# Altium schematic symbol library AD9851.SchLib: 25 symbols
Pins are listed as number, name and electrical type; pins without a type are passive.

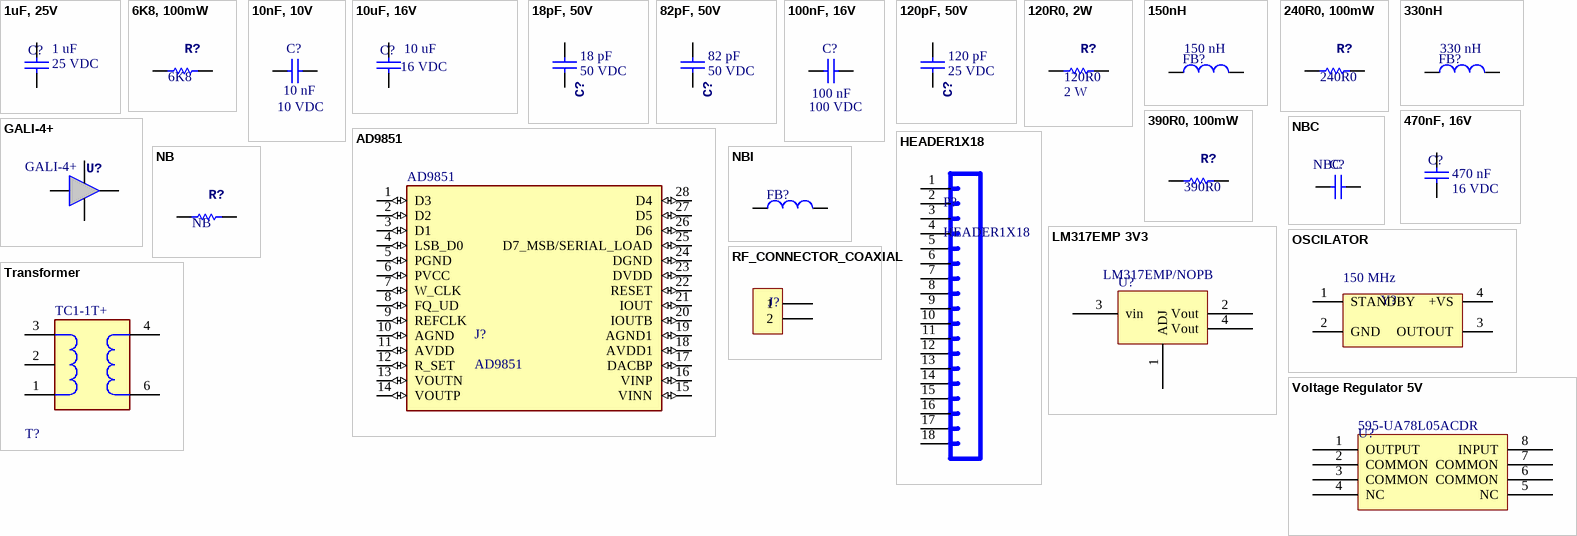
[diagram p0: symbols 1uF, 25V to Voltage Regulator 5V]

## 1uF, 25V
designator C?  Capacitance: 1 uF  Voltage Rating DC: 25 VDC  (hidden comment: 1uF, 25V)
Cap_Cer; Manufacturer: AVX; Manufacturer Part Number: 06033C105KAT2A; Description: Multilayer Ceramic Capacitors MLCC - SMD/SMT 25V 1uF X7R 0603 10%TOL HIGH CV; Tolerance: 10 %; Type: X7R MLC Capacitors; Capacitance - nF: 1000 nF; Class: Class 2; Dielectric: X7R; Supplier 1: Mouser; RoHS: RoHS Compliant; Category: Multilayer Ceramic Capacitors MLCC - SMD/SMT; Stock 1: 85860; Pricing 1: 1=0.390, 10=0.218, 100=0.186, 500=0.131, 1000=0.114, 2000=0.112, 4000=0.100, 8000=0.086, 24000=0.075 (MXN); Height: 0.35 mm; Length: 1.6 mm; Package / Case: 0603 (1608 metric); Packaging: Cut Tape; Product: General Type MLCCs; Series: MLCC X7R; Termination Style: SMD/SMT; Width: 0.8 mm; Brand: AVX; Case Code - in: 0603; Case Code - mm: 1608; Maximum Operating Temperature: + 125 C; Minimum Operating Temperature: - 55 C; Product Type: Ceramic Capacitors; Standard Pack Qty: 4000; Subcategory: Capacitors; Termination: Standard; RoHS - Mouser: Y; Minimum Order Quantity: 1; Reeling: True; ComponentLink1URL: https://www.mouser.com/datasheet/2/40/X7RDielectric-777024.pdf; ComponentLink1Description: https://www.mouser.com/datasheet/2/40/X7RDielectric-777024.pdf; Supplier Part Number 1: 581-06033C105KAT2A
footprint C0603
pins: 1, 2

## 6K8, 100mW
designator R?  Resistance: 6K8  (hidden comment: 6K8, 100mW)
Resistor; Manufacturer: Vishay / Dale; Manufacturer Part Number: CRCW06036K80JNEA; Description: Thick Film Resistors - SMD 1/10watt 6.8Kohms 5%; Power Rating: 100 mW (1/10 W); Temperature Coefficient: 200 PPM / C; Tolerance: 5 %; Voltage Rating: 75 V; Qualification: AEC-Q200; Supplier 1: Mouser; RoHS: RoHS Compliant By Exemption; Category: Thick Film Resistors - SMD; Stock 1: 18989; Pricing 1: 1=0.130, 10=0.042, 100=0.017, 1000=0.007, 5000=0.004 (MXN); Application: Automotive Grade; Features: -; Height: 0.45 mm; Length: 1.55 mm; Package / Case: -; Packaging: Cut Tape; Product: Thick Film Resistors SMD; Series: D/CRCW e3; Technology: Thick Film; Termination Style: SMD/SMT; Type: Chip Resistor; Width: 0.85 mm; Brand: Vishay / Dale; Mounting Style: PCB Mount; Case Code - in: 0603; Case Code - mm: 1608; Maximum Operating Temperature: + 155 C; Minimum Operating Temperature: - 55 C; Product Type: Thick Film Resistors; Standard Pack Qty: 5000; Subcategory: Resistors; RoHS - Mouser: E; Minimum Order Quantity: 1; Reeling: True; ComponentLink1URL: https://www.mouser.com/datasheet/2/427/dcrcwe3-1762152.pdf; ComponentLink1Description: https://www.mouser.com/datasheet/2/427/dcrcwe3-1762152.pdf; Supplier Part Number 1: 71-CRCW0603J-6.8K-E3
footprint RESC0603
pins: 1, 2

## 10nF, 10V
designator C?  Voltage Rating DC: 10 VDC  Capacitance - nF: 10 nF  (hidden comment: 10nF, 10V)
Cap_Cer; Manufacturer: Murata Electronics; Manufacturer Part Number: GRM1857U1A103JA44D; Capacitance: 0.01 uF; Tolerance: 5 %; Type: Chip Multilayer Ceramic Capacitor for General Purpose; Capacitance - pF: 10000 pF; Class: Class 1; Dielectric: U2J; Supplier 1: Mouser; RoHS: RoHS Compliant; Category: Multilayer Ceramic Capacitors MLCC - SMD/SMT; Stock 1: 8033; Pricing 1: 1=0.325, 10=0.221, 100=0.112, 500=0.075, 1000=0.068, 4000=0.046, 8000=0.044 (MXN); Height: 0.5 mm; Length: 1.6 mm; Package / Case: 0603 (1608 metric); Packaging: Cut Tape; Product: General Type MLCCs; Series: GRM; Termination Style: SMD/SMT; Width: 0.8 mm; Brand: Murata Electronics; Case Code - in: 0603; Case Code - mm: 1608; Maximum Operating Temperature: + 125 C; Minimum Operating Temperature: - 55 C; Product Type: Ceramic Capacitors; Standard Pack Qty: 4000; Subcategory: Capacitors; Termination: Standard; RoHS - Mouser: Y; Minimum Order Quantity: 1; Reeling: True; ComponentLink1URL: https://www.mouser.com/datasheet/2/281/murata_03052018_GRM_Series_1-1310166.pdf; ComponentLink1Description: https://www.mouser.com/datasheet/2/281/murata_03052018_GRM_Series_1-1310166.pdf; Supplier Part Number 1: 81-GRM1857U1A103JA4D
footprint C0603
pins: 1, 2

## 10uF, 16V
designator C?  Capacitance: 10 uF  Voltage Rating DC: 16 VDC  (hidden comment: 10uF, 16V)
Cap_Cer; Manufacturer: Murata Electronics; Manufacturer Part Number: GRM188C81C106MA73D; Tolerance: 20 %; Type: Chip Multilayer Ceramic Capacitor for General Purpose; Class: Class 2; Dielectric: X6S; Supplier 1: Mouser; RoHS: RoHS Compliant; Category: Multilayer Ceramic Capacitors MLCC - SMD/SMT; Stock 1: 24410; Pricing 1: 1=0.598, 10=0.419, 100=0.251, 500=0.187, 1000=0.159, 4000=0.112, 8000=0.105 (MXN); Height: 0.8 mm; Length: 1.6 mm; Package / Case: 0603 (1608 metric); Packaging: Cut Tape; Product: General Type MLCCs; Series: GRM; Termination Style: SMD/SMT; Width: 0.8 mm; Brand: Murata Electronics; Case Code - in: 0603; Case Code - mm: 1608; Maximum Operating Temperature: + 105 C; Minimum Operating Temperature: - 55 C; Product Type: Ceramic Capacitors; Standard Pack Qty: 4000; Subcategory: Capacitors; Termination: Standard; RoHS - Mouser: Y; Minimum Order Quantity: 1; Reeling: True; ComponentLink1URL: https://www.mouser.com/datasheet/2/281/murata_03052018_GRM_Series_1-1310166.pdf; ComponentLink1Description: https://www.mouser.com/datasheet/2/281/murata_03052018_GRM_Series_1-1310166.pdf; Supplier Part Number 1: 81-GRM188C81C106MA3D
footprint C0603
pins: 1, 2

## 18pF, 50V
designator C?  Capacitance: 18 pF  Voltage Rating DC: 50 VDC  (hidden comment: 18pF, 50V)
Cap_Cer; Manufacturer: AVX; Manufacturer Part Number: 06035A180J4T2A; Description: Multilayer Ceramic Capacitors MLCC - SMD/SMT 50V 18pF C0G 0603 5% Tol; Tolerance: 5 %; Type: Automotive MLCCs NP0 Dielectric; Dielectric: C0G (NP0); Qualification: AEC-Q200; Supplier 1: Mouser; RoHS: RoHS Compliant; Category: Multilayer Ceramic Capacitors MLCC - SMD/SMT; Stock 1: 122112; Pricing 1: 1=0.338, 10=0.234, 100=0.118, 500=0.081, 1000=0.072, 4000=0.053, 8000=0.051, 24000=0.043 (MXN); Height: 0.9 mm; Length: 1.6 mm; Package / Case: 0603 (1608 metric); Packaging: Cut Tape; Product: Automotive MLCCs; Series: AutoMLCC C0G(NP0); Termination Style: SMD/SMT; Width: 0.8 mm; Brand: AVX; Case Code - in: 0603; Case Code - mm: 1608; Maximum Operating Temperature: + 125 C; Minimum Operating Temperature: - 55 C; Product Type: Ceramic Capacitors; Standard Pack Qty: 4000; Subcategory: Capacitors; Termination: Standard; RoHS - Mouser: Y; Minimum Order Quantity: 1; Reeling: True; ComponentLink1URL: https://www.mouser.com/datasheet/2/40/AutoMLCC-777028.pdf; ComponentLink1Description: https://www.mouser.com/datasheet/2/40/AutoMLCC-777028.pdf; Supplier Part Number 1: 581-06035A180J4T2A
footprint C0603
pins: 1, 2

## 82pF, 50V
designator C?  Capacitance: 82 pF  Voltage Rating DC: 50 VDC  (hidden comment: 82pF, 50V)
Cap_Cer; Manufacturer: AVX; Manufacturer Part Number: 06035A820KAT2A; Description: Multilayer Ceramic Capacitors MLCC - SMD/SMT 50V 82pF C0G 0603 10%; Tolerance: 10 %; Type: C0G (NP0) Dielectric; Class: Class 1; Dielectric: C0G (NP0); Supplier 1: Mouser; RoHS: RoHS Compliant; Category: Multilayer Ceramic Capacitors MLCC - SMD/SMT; Stock 1: 22186; Pricing 1: 1=0.221, 10=0.163, 100=0.083, 500=0.066, 1000=0.065, 2000=0.051, 4000=0.049, 24000=0.034 (MXN); Height: 0.35 mm; Length: 1.6 mm; Package / Case: 0603 (1608 metric); Packaging: Cut Tape; Product: General Type MLCCs; Series: C0G (NP0); Termination Style: SMD/SMT; Width: 0.81 mm; Brand: AVX; Case Code - in: 0603; Case Code - mm: 1608; Maximum Operating Temperature: + 125 C; Minimum Operating Temperature: - 55 C; Product Type: Ceramic Capacitors; Standard Pack Qty: 4000; Subcategory: Capacitors; Termination: Standard; RoHS - Mouser: Y; Minimum Order Quantity: 1; Reeling: True; ComponentLink1URL: https://www.mouser.com/datasheet/2/40/C0GNP0-Dielectric-951274.pdf; ComponentLink1Description: https://www.mouser.com/datasheet/2/40/C0GNP0-Dielectric-951274.pdf; Supplier Part Number 1: 581-06035A820KAT2A
footprint C0603
pins: 1, 2

## 100nF, 16V
designator C?  Voltage Rating DC: 100 VDC  Capacitance - nF: 100 nF  (hidden comment: 100nF, 16V)
Cap_Cer; Manufacturer: Murata Electronics; Manufacturer Part Number: GRM188R72A104KA35J; Capacitance: 0.1 uF; Tolerance: 10 %; Type: Chip Multilayer Ceramic Capacitor for General Purpose; Capacitance - pF: 100000 pF; Class: Class 2; Dielectric: X7R; Supplier 1: Mouser; RoHS: RoHS Compliant; Category: Multilayer Ceramic Capacitors MLCC - SMD/SMT; Stock 1: 69028; Pricing 1: 1=0.403, 10=0.276, 100=0.156, 500=0.111, 1000=0.096, 2500=0.079, 5000=0.073, 10000=0.066, 20000=0.061 (MXN); Height: 0.8 mm; Length: 1.6 mm; Package / Case: 0603 (1608 metric); Packaging: Cut Tape; Product: General Type MLCCs; Series: GRM; Termination Style: SMD/SMT; Width: 0.8 mm; Brand: Murata Electronics; Case Code - in: 0603; Case Code - mm: 1608; Maximum Operating Temperature: + 125 C; Minimum Operating Temperature: - 55 C; Product Type: Ceramic Capacitors; Standard Pack Qty: 10000; Subcategory: Capacitors; Termination: Standard; RoHS - Mouser: Y; Minimum Order Quantity: 1; Reeling: True; ComponentLink1URL: https://www.mouser.com/datasheet/2/281/murata_03052018_GRM_Series_1-1310166.pdf; ComponentLink1Description: https://www.mouser.com/datasheet/2/281/murata_03052018_GRM_Series_1-1310166.pdf; Supplier Part Number 1: 81-GRM188R72A104KA5J
footprint C0603
pins: 1, 2

## 120pF, 50V
designator C?  Capacitance: 120 pF  Voltage Rating DC: 25 VDC  (hidden comment: 120pF, 50V)
Cap_Cer; Manufacturer: AVX; Manufacturer Part Number: 06033A121KAT2A; Description: Multilayer Ceramic Capacitors MLCC - SMD/SMT 25V 120pF C0G 0603 10% Tol; Tolerance: 10 %; Type: C0G (NP0) Dielectric; Capacitance - nF: 0.12 nF; Class: Class 1; Dielectric: C0G (NP0); Supplier 1: Mouser; RoHS: RoHS Compliant; Category: Multilayer Ceramic Capacitors MLCC - SMD/SMT; Stock 1: 8626; Pricing 1: 1=0.312, 10=0.221, 100=0.112, 500=0.077, 1000=0.068, 2000=0.051, 4000=0.051, 24000=0.040 (MXN); Height: 0.35 mm; Length: 1.6 mm; Package / Case: 0603 (1608 metric); Packaging: Cut Tape; Product: General Type MLCCs; Series: C0G (NP0); Termination Style: SMD/SMT; Width: 0.81 mm; Brand: AVX; Case Code - in: 0603; Case Code - mm: 1608; Maximum Operating Temperature: + 125 C; Minimum Operating Temperature: - 55 C; Product Type: Ceramic Capacitors; Standard Pack Qty: 4000; Subcategory: Capacitors; Termination: Standard; RoHS - Mouser: Y; Minimum Order Quantity: 1; Reeling: True; ComponentLink1URL: https://www.mouser.com/datasheet/2/40/C0GNP0-Dielectric-951274.pdf; ComponentLink1Description: https://www.mouser.com/datasheet/2/40/C0GNP0-Dielectric-951274.pdf; Supplier Part Number 1: 581-06033A121KAT2A
footprint C0603
pins: 1, 2

## 120R0, 2W
designator R?  Resistance: 120R0  Power Rating: 2 W  (hidden comment: 120R0, 2W)
Resistor; Manufacturer: Yageo; Manufacturer Part Number: RC2512FK-7W120RL; Description: Thick Film Resistors - SMD; Temperature Coefficient: 100 PPM / C; Tolerance: 1 %; Voltage Rating: 200 V; Supplier 1: Mouser; RoHS: RoHS Compliant By Exemption; Category: Thick Film Resistors - SMD; Stock 1: 0; Pricing 1: 1=0.650, 10=0.460, 100=0.261, 1000=0.212, 4000=0.182, 8000=0.176, 24000=0.172, 48000=0.170 (MXN); Application: High Reliability; Features: -; Height: 0.55 mm; Length: 6.35 mm; Package / Case: -; Packaging: Cut Tape; Product: Thick Film Resistors SMD; Series: RC; Technology: Thick Film; Termination Style: SMD/SMT; Type: General Purpose; Width: 3.1 mm; Brand: Yageo; Mounting Style: PCB Mount; Case Code - in: 2512; Case Code - mm: 6332; Maximum Operating Temperature: + 155 C; Minimum Operating Temperature: - 55 C; Product Type: Thick Film Resistors; Standard Pack Qty: 4000; Subcategory: Resistors; RoHS - Mouser: E; Minimum Order Quantity: 1; Reeling: True; ComponentLink1URL: https://www.mouser.com/datasheet/2/447/PYu-RC_Group_51_RoHS_L_10-1664068.pdf; ComponentLink1Description: https://www.mouser.com/datasheet/2/447/PYu-RC_Group_51_RoHS_L_10-1664068.pdf; Supplier Part Number 1: 603-RC2512FK-7W120RL
footprint RESC2512
pins: 1, 2

## 150nH
designator FB?  Inductance: 150 nH  (hidden comment: 150nH)
Inductor; Manufacturer: EPCOS / TDK; Manufacturer Part Number: B82498F3151G000; Description: Fixed Inductors SMT-INDUCTOR 0805 150NH 2%; Maximum DC Current: 0.4 A; Maximum DC Resistance: 420 mOhms; Q Minimum: 45; Tolerance: 2 %; Supplier 1: Mouser; RoHS: RoHS Compliant; Category: Fixed Inductors; Stock 1: 0; Pricing 1: 6000=0.378, 24000=0.365 (MXN); Package / Case: 0805 (2012 metric); Packaging: Reel; Product: Fixed Inductors; Series: B82498F; Termination Style: SMD/SMT; Brand: EPCOS / TDK; Mounting Style: PCB Mount; Case Code - in: 0805; Case Code - mm: 2012; Maximum Operating Temperature: + 150 C; Minimum Operating Temperature: - 55 C; Product Type: Fixed Inductors; Standard Pack Qty: 6000; Subcategory: Inductors, Chokes & Coils; Termination: -; RoHS - Mouser: Y; Minimum Order Quantity: 6000; Reeling: True; Supplier Part Number 1: 871-B82498F3151G000
footprint SIMID 0805
pins: 1, 2

## 240R0, 100mW
designator R?  Resistance: 240R0  (hidden comment: 240R0, 100mW)
Resistor; Manufacturer: Vishay / Dale; Manufacturer Part Number: CRCW0603240RFKEAC; Description: Thick Film Resistors - SMD 1/10Watt 240ohms 1% Commercial Use; Power Rating: 100 mW (1/10 W); Temperature Coefficient: 100 PPM / C; Tolerance: 1 %; Voltage Rating: 75 V; Supplier 1: Mouser; RoHS: RoHS Compliant By Exemption; Category: Thick Film Resistors - SMD; Stock 1: 66523; Pricing 1: 1=0.221, 10=0.086, 100=0.049, 500=0.047, 1000=0.034, 5000=0.010, 25000=0.008 (MXN); Features: -; Height: 0.45 mm; Length: 1.55 mm; Package / Case: -; Packaging: Cut Tape; Product: Thick Film Resistors SMD; Series: CRCW-C e3; Technology: Thick Film; Termination Style: SMD/SMT; Width: 0.85 mm; Brand: Vishay / Dale; Mounting Style: PCB Mount; Case Code - in: 0603; Case Code - mm: 1608; Maximum Operating Temperature: + 155 C; Minimum Operating Temperature: - 55 C; Product Type: Thick Film Resistors; Standard Pack Qty: 5000; Subcategory: Resistors; RoHS - Mouser: E; Minimum Order Quantity: 1; Reeling: True; ComponentLink1URL: https://www.mouser.com/datasheet/2/427/crcwce3-1762584.pdf; ComponentLink1Description: https://www.mouser.com/datasheet/2/427/crcwce3-1762584.pdf; Supplier Part Number 1: 71-CRCW0603240RFKEAC
footprint RESC0603
pins: 1, 2

## 330nH
designator FB?  Inductance: 330 nH  (hidden comment: 330nH)
Inductor; Manufacturer: EPCOS / TDK; Manufacturer Part Number: B82498F3331J; Description: Fixed Inductors 330nH 220mA 5% 2.3x1.7mm SMD; Core Material: Ceramic; Maximum DC Current: 220 mA; Maximum DC Resistance: 1.5 Ohms; Q Minimum: 45; Self Resonant Frequency: 800 MHz; Shielding: Unshielded; Tolerance: 5 %; Test Frequency: 100 MHz; Supplier 1: Mouser; RoHS: RoHS Compliant By Exemption; Category: Fixed Inductors; Stock 1: 8486; Pricing 1: 1=0.988, 10=0.880, 100=0.660, 500=0.572, 1000=0.484, 2500=0.356, 6000=0.312, 24000=0.302, 48000=0.291 (MXN); Height: 1.4 mm; Length: 2.3 mm; Package / Case: 0805 (2012 metric); Packaging: Cut Tape; Product: Fixed Inductors; Series: B82498F; Termination Style: SMD/SMT; Width: 1.7 mm; Brand: EPCOS / TDK; Mounting Style: PCB Mount; Case Code - in: 0805; Case Code - mm: 2012; Maximum Operating Temperature: + 150 C; Minimum Operating Temperature: - 55 C; Product Type: Fixed Inductors; Standard Pack Qty: 6000; Subcategory: Inductors, Chokes & Coils; Termination: -; RoHS - Mouser: E; Minimum Order Quantity: 1; Reeling: True; Supplier Part Number 1: 871-B82498F3331J
footprint SIMID 0805
pins: 1, 2

## 390R0, 100mW
designator R?  Resistance: 390R0  (hidden comment: 390R0, 100mW)
Resistor; Manufacturer: Vishay / Dale; Manufacturer Part Number: CRCW0603390RFKEA; Description: Thick Film Resistors - SMD 1/10watt 390ohms 1%; Power Rating: 100 mW (1/10 W); Temperature Coefficient: 100 PPM / C; Tolerance: 1 %; Voltage Rating: 75 V; Qualification: AEC-Q200; Supplier 1: Mouser; RoHS: RoHS Compliant By Exemption; Category: Thick Film Resistors - SMD; Stock 1: 33010; Pricing 1: 1=0.130, 10=0.048, 100=0.034, 500=0.020, 1000=0.008, 5000=0.007, 25000=0.005 (MXN); Application: Automotive Grade; Features: -; Height: 0.45 mm; Length: 1.55 mm; Package / Case: -; Packaging: Cut Tape; Product: Thick Film Resistors SMD; Series: D/CRCW e3; Technology: Thick Film; Termination Style: SMD/SMT; Type: Chip Resistor; Width: 0.85 mm; Brand: Vishay / Dale; Mounting Style: PCB Mount; Case Code - in: 0603; Case Code - mm: 1608; Maximum Operating Temperature: + 155 C; Minimum Operating Temperature: - 55 C; Product Type: Thick Film Resistors; Standard Pack Qty: 5000; Subcategory: Resistors; RoHS - Mouser: E; Minimum Order Quantity: 1; Reeling: True; ComponentLink1URL: https://www.mouser.com/datasheet/2/427/dcrcwe3-1762152.pdf; ComponentLink1Description: https://www.mouser.com/datasheet/2/427/dcrcwe3-1762152.pdf; Supplier Part Number 1: 71-CRCW0603-390-E3
footprint RESC0603
pins: 1, 2

## 470nF, 16V
designator C?  Voltage Rating DC: 16 VDC  Capacitance - nF: 470 nF  (hidden comment: 470nF, 16V)
Cap_Cer; Manufacturer: KEMET; Manufacturer Part Number: C0603X474J4RACTU; Description: Multilayer Ceramic Capacitors MLCC - SMD/SMT 16V 0.47uF X7R 0603 5% Flex; Capacitance: 0.47 uF; Tolerance: 5 %; Capacitance - pF: 470000 pF; Class: Class 2; Dielectric: X7R; Product Status: New Product; Supplier 1: Mouser; RoHS: RoHS Compliant; Category: Multilayer Ceramic Capacitors MLCC - SMD/SMT; Stock 1: 2631; Pricing 1: 1=1.07, 10=0.712, 100=0.443, 500=0.400, 1000=0.367, 4000=0.238, 8000=0.226, 24000=0.221, 48000=0.213 (MXN); Height: 0.8 mm; Length: 1.6 mm; Package / Case: 0603 (1608 metric); Packaging: Cut Tape; Product: General Type MLCCs; Series: SMD Comm X7R Flex; Termination Style: SMD/SMT; Width: 0.8 mm; Brand: KEMET; Case Code - in: 0603; Case Code - mm: 1608; Maximum Operating Temperature: + 125 C; Minimum Operating Temperature: - 55 C; Product Type: Ceramic Capacitors; Standard Pack Qty: 4000; Subcategory: Capacitors; Termination: Flexible (Soft); Tradename: FT-CAP; RoHS - Mouser: Y; Minimum Order Quantity: 1; Reeling: True; ComponentLink1URL: https://www.mouser.com/datasheet/2/212/1/KEM_C1013_X7R_FT_CAP_SMD-1103280.pdf; ComponentLink1Description: https://www.mouser.com/datasheet/2/212/1/KEM_C1013_X7R_FT_CAP_SMD-1103280.pdf; Supplier Part Number 1: 80-C0603X474J4RACTU
footprint C0603
pins: 1, 2

## AD9851
designator J?
DDS/DAC Synthesizer; Manufacturer: Analog Devices; Manufacturer Part Number: AD9851BRSZ; Description: Data Acquisition ADCs/DACs - Specialized DDS CLOCK DRIVER; Number of Converters: 1 Converter; Resolution: 10 bit; Interface Type: Serial; Number of Channels: 1 Channel; Operating Supply Voltage: 2.7 V to 5.25 V; Supplier 1: Mouser; RoHS: RoHS Compliant; Category: Data Acquisition ADCs/DACs - Specialized; Stock 1: 363; Pricing 1: 1=38.74, 5=37.99, 10=35.72, 25=34.11, 50=33.23, 100=30.03, 250=27.69, 500=26.27 (MXN); Height: 1.75 mm; Length: 10.2 mm; Package / Case: SSOP-28; Packaging: Tube; Product: DDS Direct Digital Synthesis ICs; Type: DDS/DAC Synthesizer; Width: 5.3 mm; Brand: Analog Devices; Mounting Style: SMD/SMT; Maximum Operating Temperature: + 85 C; Minimum Operating Temperature: - 40 C; Product Type: Data Acquisition ADCs/DACs - Specialized; Standard Pack Qty: 47; Subcategory: Data Converter ICs; RoHS - Mouser: Y; Minimum Order Quantity: 1; Reeling: False; ComponentLink1URL: https://www.mouser.com/datasheet/2/609/AD9851-1502703.pdf; ComponentLink1Description: https://www.mouser.com/datasheet/2/609/AD9851-1502703.pdf; Supplier Part Number 1: 584-AD9851BRSZ; Series: AD9851
footprint TSSOP28
pins: 1 D3 (io), 2 D2 (io), 3 D1 (io), 4 LSB_D0 (io), 5 PGND (io), 6 PVCC (io), 7 W_CLK (io), 8 FQ_UD (io), 9 REFCLK (io), 10 AGND (io), 11 AVDD (io), 12 R_SET (io), 13 VOUTN (io), 14 VOUTP (io), 15 VINN (io), 16 VINP (io), 17 DACBP (io), 18 AVDD1 (io), 19 AGND1 (io), 20 IOUTB (io), 21 IOUT (io), 22 RESET (io), 23 DVDD (io), 24 DGND (io), 25 D7_MSB/SERIAL_LOAD (io), 26 D6 (io), 27 D5 (io), 28 D4 (io)

## GALI-4+
designator U?
AMPLIFIER; Manufacturer: Mini-Circuits; Description: RF Amplifier SMT Gain Block, DC - 4000 MHz, 50 ohms; Operating Frequency: 0 Hz to 4 GHz; Gain: 13.1 dB; Number of Channels: 1 Channel; Input Return Loss: 21 dB; NF - Noise Figure: 4 dB; OIP3 - Third Order Intercept: 34 dBm; Operating Supply Current: 65 mA; Operating Supply Voltage: 4.6 V; P1dB - Compression Point: 17.5 dBm; Test Frequency: 1 GHz; Product Status: New Product; Supplier 1: Mouser; RoHS: RoHS Compliant; Category: RF Amplifier; Stock 1: 700; Pricing 1: 1=4.21, 10=3.98, 25=3.45, 100=3.28, 250=2.94, 500=2.47, 1000=2.35, 2000=2.26, 5000=2.21 (MXN); Package / Case: SOT-89-4; Packaging: Cut Tape; Series: GALI; Technology: GaAs InGaP; Type: Gain Block; Brand: Mini-Circuits; Mounting Style: SMD/SMT; Maximum Operating Temperature: + 85 C; Minimum Operating Temperature: - 45 C; Product Type: RF Amplifier; Standard Pack Qty: 1000; Subcategory: Wireless & RF Integrated Circuits; RoHS - Mouser: Y; Minimum Order Quantity: 1; Reeling: True; ComponentLink1URL: https://www.mouser.com/datasheet/2/1030/GALI-4_2b-1700699.pdf; ComponentLink1Description: https://www.mouser.com/datasheet/2/1030/GALI-4_2b-1700699.pdf; Supplier Part Number 1: 139-GALI-4; Manufacturer Part Number: GALI-4+
footprint SOT-89-3
pins: 1, 2, 3, 4

## HEADER1X18
designator P?
HEADER; Manufacturer: Amphenol FCI; Manufacturer Part Number: 68000-236HLF; Current Rating: 3 A; Mounting Angle: Straight; Number of Positions: 36 Position; Voltage Rating: 1.5 kV; Pitch: 2.54 mm; Insulation Resistance: 5 GOhms; Mating Post Length: 5.84 mm; Supplier 1: Mouser; RoHS: RoHS Compliant; Category: Headers & Wire Housings; Stock 1: 48; Pricing 1: 1=1.89, 10=1.65, 100=1.47, 200=1.42, 500=1.23, 1000=1.00 (MXN); Contact Plating: Gold; Housing Material: Thermoplastic (TP); Number of Rows: 1 Row; Packaging: Bulk; Product: Headers; Termination Style: Solder Pin; Type: Pin Strip; Brand: Amphenol FCI; Contact Material: Phosphor Bronze; Flammability Rating: UL 94 V-0; Mounting Style: -; Contact Gender: Pin (Male); Housing Color: Black; Housing Gender: -; Maximum Operating Temperature: + 125 C; Minimum Operating Temperature: - 65 C; Product Type: Headers & Wire Housings; Standard Pack Qty: 100; Subcategory: Headers & Wire Housings; Termination Post Length: 2.41 mm; Tradename: BergStik; RoHS - Mouser: Y; Minimum Order Quantity: 1; Reeling: False; ComponentLink1URL: https://www.mouser.com/datasheet/2/18/68000-1266375.pdf; ComponentLink1Description: https://www.mouser.com/datasheet/2/18/68000-1266375.pdf; Supplier Part Number 1: 649-68000-236HLF
footprint HEAD9-90 (HEAD15-NOSS)
pins: 1, 2, 3, 4, 5, 6, 7, 8, 9, 10, 11, 12, 13, 14, 15, 16, 17, 18

## LM317EMP 3V3
designator U?  Manufacturer Part Number: LM317EMP/NOPB  (hidden comment: LM317EMP 3V3)
Voltage Regulator; Manufacturer: Texas Instruments; Description: Linear Voltage Regulators 3-TERMINAL ADJ REG; Input Voltage MAX: 40 V; Number of Outputs: 1 Output; Output Current: 1 A; Output Type: Adjustable; Output Voltage: 1.2 V to 37 V; PSRR / Ripple Rejection - Typ: 80 dB; Input Voltage MIN: 4.2 V; Line Regulation: 0.04 %/V; Load Regulation: 0.5 %; Polarity: Positive; Supplier 1: Mouser; RoHS: RoHS Compliant; Category: Linear Voltage Regulators; Stock 1: 20391; Pricing 1: 1=1.63, 10=1.38, 100=1.06, 250=0.935, 500=0.885, 1000=0.689, 2000=0.654, 5000=0.629, 10000=0.610 (MXN); Operating Temperature Range: 0 C to + 125 C; Package / Case: SOT-223-4; Packaging: Cut Tape; Series: LM317-N; Brand: Texas Instruments; Mounting Style: SMD/SMT; Maximum Operating Temperature: + 125 C; Minimum Operating Temperature: 0 C; Product Type: Linear Voltage Regulators; Standard Pack Qty: 1000; Subcategory: PMIC - Power Management ICs; RoHS - Mouser: Y; Minimum Order Quantity: 1; Reeling: True; Supplier Part Number 1: 926-LM317EMP/NOPB
footprint SOT-223-4
pins: 1 ADJ, 2 Vout, 3 vin, 4 Vout

## NB
designator R?
Resistor; Resistance: NB
footprint RESC0603
pins: 1, 2

## NBC
designator C?
Cap_Cer
footprint C0603
pins: 1, 2

## NBI
designator FB?  (value not drawn)
Inductor
footprint SIMID 0805
pins: 1, 2

## OSCILATOR
designator Y?  Frequency: 150 MHz  (hidden comment: OSCILATOR)
Crystal Oscillator; Manufacturer: ABRACON; Manufacturer Part Number: ASV-150.000MHZ-E-C-T; Description: Standard Clock Oscillators 150.000MHZ 30ppm 3V; Frequency Stability: 30 PPM; Operating Supply Voltage: 3 V; Supplier 1: Mouser; RoHS: RoHS Compliant; Category: Standard Clock Oscillators; Stock 1: 654; Pricing 1: 1=4.90, 10=4.65, 25=4.59, 50=4.50, 100=4.29, 250=4.16, 500=4.11, 1000=3.38, 2000=3.25 (MXN); Height: 1.8 mm; Length: 7 mm; Package / Case: 7 mm x 5 mm; Packaging: Cut Tape; Series: ASV; Termination Style: SMD/SMT; Type: XO - Crystal Clock Oscillators; Width: 5.08 mm; Brand: ABRACON; Mounting Style: SMD/SMT; Product Type: Clock Oscillators; Standard Pack Qty: 1000; Subcategory: Oscillators; RoHS - Mouser: Y; Minimum Order Quantity: 1; Reeling: True; ComponentLink1URL: https://www.mouser.com/datasheet/2/3/ASV-24925.pdf; ComponentLink1Description: https://www.mouser.com/datasheet/2/3/ASV-24925.pdf; Supplier Part Number 1: 815-ASV-150.0M-ECT
footprint OScilator
pins: 1 STANDBY, 2 GND, 3 OUTOUT, 4 +VS

## RF_CONNECTOR_COAXIAL
designator J?  (value not drawn)
CONNECTOR_COAXIAL; Manufacturer: Amphenol; Manufacturer Part Number: B6252H5-NPP3G-50; Supplier 1: Mouser; Category: RF Connectors / Coaxial Connectors; Stock 1: 0; Product: Connectors; Termination Style: Solder; Brand: Amphenol; Product Type: RF Connectors / Coaxial Connectors; Subcategory: RF Interconnects; Minimum Order Quantity: 1; Reeling: False; Supplier Part Number 1: N/A
footprint Coaxial Connector BNC
pins: 1, 2

## Transformer
designator T?  Manufacturer Part Number: TC1-1T+  (hidden comment: Transformer)
Signal Transformers; Manufacturer: Mini-Circuits; Description: Audio Transformers / Signal Transformers 1:1 CORE & WIRE Transformer, 0.4 - 500 MHz, 50 ohms; Frequency Range: 0.4 MHz to 500 MHz; Maximum DC Current: 30 mA; Power Rating: 0.25 W; Primary Impedance: 50 Ohms; Type: SMT Transformers; Number of Channels: 1 Channel; Product Status: New Product; Supplier 1: Mouser; RoHS: RoHS Compliant; Category: Audio Transformers / Signal Transformers; Stock 1: 4441; Pricing 1: 1=3.42, 10=2.99, 100=2.60, 500=2.15, 1000=1.89, 2000=1.76, 4000=1.69 (MXN); Height: 4.06 mm; Length: 3.81 mm; Package / Case: 3.81 mm x 3.81 mm x 4.06 mm; Packaging: Cut Tape; Product: RF; Secondary Impedance: 50 Ohms; Series: TC1; Termination Style: SMD/SMT; Width: 3.81 mm; Brand: Mini-Circuits; Maximum Operating Temperature: + 85 C; Minimum Operating Temperature: - 40 C; Product Type: Audio & Signal Transformers; Standard Pack Qty: 2000; Subcategory: Transformers; RoHS - Mouser: Y; Minimum Order Quantity: 1; Reeling: True; ComponentLink1URL: https://www.mouser.com/datasheet/2/1030/TC1-1T_2b-1701206.pdf; ComponentLink1Description: https://www.mouser.com/datasheet/2/1030/TC1-1T_2b-1701206.pdf; Supplier Part Number 1: 139-TC1-1T
footprint Mini-Circuits_0_MFG
pins: 1, 2, 3, 4, 6

## Voltage Regulator 5V
designator U?  Supplier Part Number 1: 595-UA78L05ACDR  (hidden comment: Voltage Regulator 5V)
Voltage Regulator; Manufacturer: Texas Instruments; Manufacturer Part Number: UA78L05ACDR; Description: Linear Voltage Regulators 5.0V 100mA; Input Voltage MAX: 20 V; Number of Outputs: 1 Output; Output Current: 100 mA; Output Type: Fixed; PSRR / Ripple Rejection - Typ: 49 dB; Input Voltage MIN: 7 V; Line Regulation: 150 mV; Load Regulation: 60 mV; Polarity: Positive; Supplier 1: Mouser; RoHS: RoHS Compliant; Category: Linear Voltage Regulators; Stock 1: 72184; Pricing 1: 1=0.637, 10=0.464, 100=0.260, 500=0.238, 1000=0.178, 2500=0.168, 5000=0.157, 10000=0.144, 25000=0.139 (MXN); Height: 1.58 mm; Length: 4.9 mm; Operating Temperature Range: - 40 C to + 125 C; Output Voltage: 5 V; Package / Case: SOIC-8; Packaging: Cut Tape; Series: UA78L05A; Width: 3.91 mm; Brand: Texas Instruments; Mounting Style: SMD/SMT; Maximum Operating Temperature: + 125 C; Minimum Operating Temperature: - 40 C; Product Type: Linear Voltage Regulators; Standard Pack Qty: 2500; Subcategory: PMIC - Power Management ICs; RoHS - Mouser: Y; Minimum Order Quantity: 1; Reeling: True
footprint SOIC8
pins: 1 OUTPUT, 2 COMMON, 3 COMMON, 4 NC, 5 NC, 6 COMMON, 7 COMMON, 8 INPUT